# EAGLE library part CATALEX_SD (library Richard_Boards)
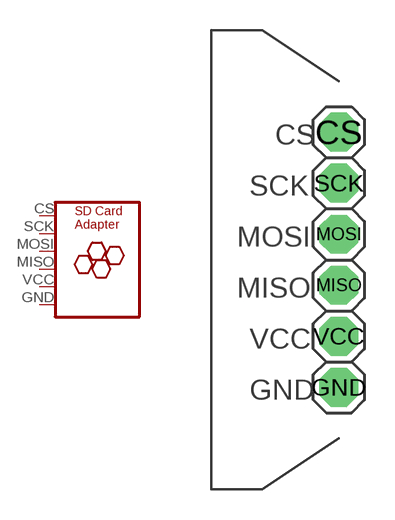
[diagram p7: symbol with the pads of CATALEX_SD; footprint CATALEX_SD]

Designator prefix -

## CATALEX_SD  [CATALEX_SD]
CS  CS  pas
GND  GND  pas
MISO  MISO  pas
MOSI  MOSI  pas
SCK  SCK  pas
VCC  VCC  pas

## Footprint CATALEX_SD (pad centres in mm)
PIN HEADER
drill 1.016 pad 1.93 octagon: CS 0,6.35; GND 0,-6.35; MISO 0,-1.27; MOSI 0,1.27; SCK 0,3.81; VCC 0,-3.81